# Altium footprint library LM2596_family.PcbLib: 1 footprints
Each footprint in its own frame and in the unit in brackets; x right, y up, seen from the top. Pads: shape width x height; smd on the part's side, far side on the other; paste and mask are expansions set on the pad; w line width, h text height; cw(c..) or ccw(c..) is an arc to the next point about the centre after c.
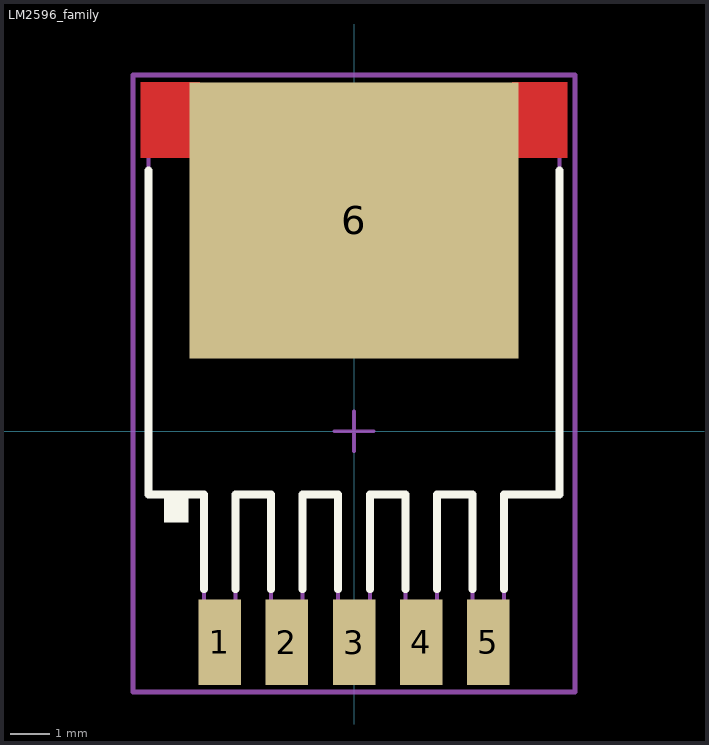
[diagram p0: the footprint, top view; thin cyan lines are the x and y axes]

## LM2596_family [mm]
pads (6):
  rect 1.07x2.16 smd paste-0.102 mask+0.051: 1(-3.4,-5.338) 2(-1.7,-5.338) 3(0.005,-5.338) 4(1.7,-5.338) 5(3.4,-5.338)
  rect 8.33x6.99 smd paste-0.102 mask+0.051: 6(0,5.338)
Top Layer:
  region: -3.9,8.832 -5.4,8.832 -5.4,6.923 -3.9,6.923
  region: 5.4,8.832 4,8.832 4,6.923 5.4,6.923
Top Overlay:
  region: -4.2,-1.6 -4.8,-1.6 -4.8,-2.3 -4.2,-2.3
  lines w0.2: -5.2,6.6 -5.2,-1.6 -3.8,-1.6 -3.8,-4 ; -3,-4 -3,-1.6 -2.1,-1.6 -2.1,-4 ; -1.3,-4 -1.3,-1.6 -0.4,-1.6 -0.4,-4 ; 0.4,-4 0.4,-1.6 1.3,-1.6 1.3,-4 ; 2.1,-4 2.1,-1.6 3,-1.6 3,-4 ; 3.8,-4 3.8,-1.6 5.2,-1.6 5.2,6.6
Top Paste:
  region: -4.002,8.731 -5.298,8.731 -5.298,7.024 -4.002,7.024
  region: 5.298,8.731 4.102,8.731 4.102,7.024 5.298,7.024
Top Solder:
  region: -3.849,8.883 -5.451,8.883 -5.451,6.872 -3.849,6.872
  region: 5.451,8.883 3.949,8.883 3.949,6.872 5.451,6.872
Top Designator:
  text ".Designator" at -5.998,-0.4 h1.2
Mechanical 13:
  lines w0.1: -5.2,-1.6 -3.8,-1.6 -3.8,-6 -3,-6 -3,-1.6 -2.1,-1.6 -2.1,-6 -1.3,-6 -1.3,-1.6 -0.4,-1.6 -0.4,-6 0.4,-6 0.4,-1.6 1.3,-1.6 1.3,-6 2.1,-6 2.1,-1.6 3,-1.6 3,-6 3.8,-6 3.8,-1.6 5.2,-1.6 5.2,7.9 3.6,8.3 -3.3,8.3 -5.2,7.9 -5.2,-1.6
Mechanical 15:
  lines w0.1: -0.5,0 0.5,0 ; 0,-0.5 0,0.5
  lines w0.127: -5.588,-6.604 -5.588,9.017 5.588,9.017 5.588,-6.604 -5.588,-6.604
3D body "KTT0005B.stp": height 4.57, standoff -0.15, extent -5.08,-6.134 5.08,8.166